# EAGLE library part DM1AA-SF-PEJ (library Mechanical)
Hirose DM1 series right angle surface mount SD Card connector
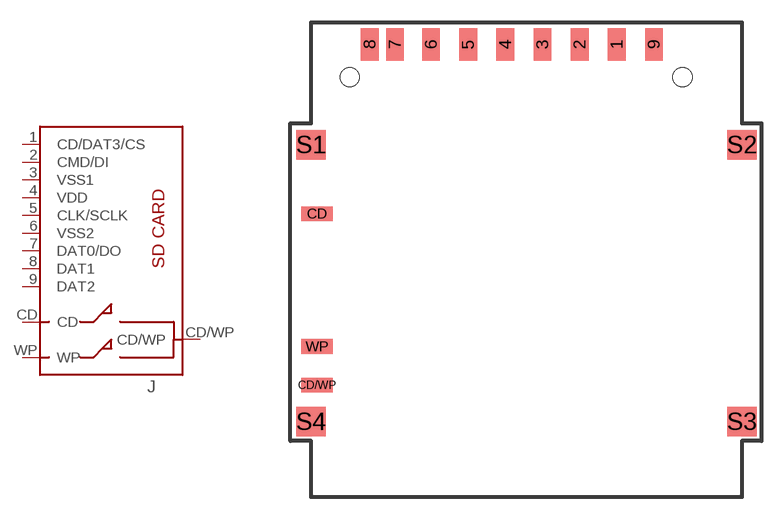
[diagram p64: symbol with the pads of DM1AA-SF-PEJ; footprint DM1AA-SF-PEJ]

Designator prefix J

## DM1AA-SF-PEJ  [DM1AA-SF-PEJ]
1  CD/DAT3/CS
2  CMD/DI
3  VSS1
4  VDD
5  CLK/SCLK
6  VSS2
7  DAT0/DO
8  DAT1
9  DAT2
CD  CD
CD/WP  CD/WP
WP  WP

## Footprint DM1AA-SF-PEJ (pad centres in mm)
Hirose DM1AA-SF-PEJ(21) Standard PCB Mount SD Card connector
smd 1.2 x 2.2: 1 6.075,0; 2 3.575,0; 3 1.075,0; 4 -1.425,0; 5 -3.925,0; 6 -6.425,0; 7 -8.85,0; 8 -10.55,0; 9 8.575,0
smd 2.1 x 1: CD -14.1,-11.4; CD/WP -14.1,-22.95; WP -14.1,-20.35
smd 2 x 2: S1 -14.5,-6.75; S2 14.5,-6.75; S3 14.5,-25.4; S4 -14.5,-25.4
hole 1.3 at -11.9,-2.2
hole 1.3 at 10.5,-2.2